# Altium schematic symbol library Components - 06.03.25 - 19.15.SchLib: 1 symbol
Pins are listed as number, name and electrical type; pins without a type are passive.

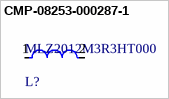
[diagram p0: symbol CMP-08253-000287-1]

## CMP-08253-000287-1
designator L?, comment MLZ2012M3R3HT000
Shielded Multilayer Inductor 3.3uH ±20% 500mA 260mΩ SMD 0805; Saturation Current: 350mA; Core Material: Ferrite; DC Resistance (DCR): 260mR; RoHS Compliant: Yes; Mount: Surface Mount; Case Code (Metric): 2012; Case/Package: 0805; Min Operating Temperature: -55°C; Package Quantity: 2000; Shielding: Shielded; Current Rating: 500mA; Height - Seated (Max): 0.057inch; Case Code (Imperial): 0805; Width: 0.049inch; Tolerance: 20%; Packaging: Tape and Reel; Inductance: 3.3uH; Lead Free: Lead Free; Max Operating Temperature: 125°C; Length: 0.079inch
footprint FP-MLZ2012-1_25-IPC_B
footprint FP-MLZ2012-1_25-IPC_C
footprint FP-MLZ2012-1_25-IPC_A
footprint FP-MLZ2012-1_25-MFG
pins: 1, 2